# Altium schematic symbol library HCPL-3120.SchLib: 1 symbol
Pins are listed as number, name and electrical type; pins without a type are passive.

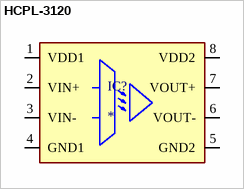
[diagram p0: symbol HCPL-3120]

## HCPL-3120
designator IC?
<b>Isolation Amplifer</b><p> Source: http://www.avagotech.com/docs/AV02-0410EN; MF: {'manufacturer': u'Broadcom / Avago'}; Package: None; Price: None; Value: *; MP: HCPL-3120; Availability: Unavailable
footprint DIL08
pins: 1 VDD1 (power), 2 VIN+ (power), 3 VIN- (power), 4 GND1 (power), 5 GND2 (power), 6 VOUT- (power), 7 VOUT+ (power), 8 VDD2 (power)